# Altium footprint library PcbLibForHigh_Voltage_Sensor.PcbLib: 50 footprints (part 4 of 4)
Each footprint in its own frame and in the unit in brackets; x right, y up, seen from the top. Pads: shape width x height; smd on the part's side, far side on the other; paste and mask are expansions set on the pad; w line width, h text height; cw(c..) or ccw(c..) is an arc to the next point about the centre after c.
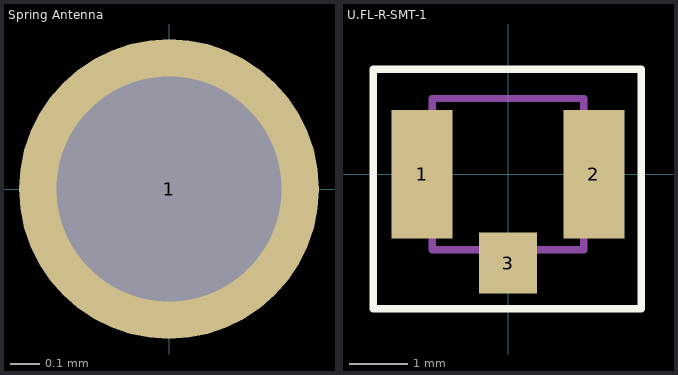
[diagram p3: the footprints below, top view; thin cyan lines are the x and y axes]

## Spring Antenna [mil] "Spring Antenna"
height 216.54
pads (1):
  round 40 hole 30: 1(0,0)
3D body: height 240.16, standoff -122.05, extent -181.61,273.25 180.59,304.75
3D body: height 240.16, standoff -122.05, extent -180.97,399.17 181.23,430.67
3D body: height 159.32, standoff -41.21, extent -100.39,174 100.39,205.5
3D body: height 159.32, standoff -41.21, extent -100.39,640 100.39,671.5
3D body: height 240.16, standoff -122.05, extent -181.84,589.34 180.36,620.84
3D body: height 240.16, standoff -122.05, extent -181.41,526.76 180.79,558.25
3D body: height 240.16, standoff -122.05, extent -179.9,473.51 182.3,505
3D body: height 240.16, standoff -122.05, extent -182.04,335.84 180.16,367.33
3D body: height 236.22, standoff -118.11, extent -177.23,177.16 177.09,767.71
3D body: height 240.16, standoff -122.05, extent -180.1,220 182.1,251.5
3D body: height 74.77, standoff 43.34, extent -15.75,0 15.62,177.16
3D body: height 57.05, standoff -171.37, extent -15.62,-15.71 15.75,15.72
3D body: height 74.8, standoff 43.31, extent -15.72,-15.64 15.74,15.64

## U.FL-R-SMT-1 [mm]
pads (3):
  rect 1.05x2.2 smd: 1(-1.475,0) 2(1.475,0)
  rect 1x1.05 smd: 3(0,-1.525)
Top Overlay:
  lines w0.127: -2.311,-2.311 2.286,-2.311 2.286,1.803 -2.083,1.803 -2.311,1.803 -2.311,-2.311
Mechanical 3:
  lines w0.127: -1.3,-1.3 -1.3,1.3 1.3,1.3 1.3,-1.3 -1.3,-1.3
Mechanical 7:
  lines w0.127: -1.3,-1.3 -1.3,1.3 1.3,1.3 1.3,-1.3 -1.3,-1.3
3D body "U.FL-R-SMT-01---3DModel-STEP-56544.STEP": height 1.25, standoff 0, extent -1.473,-1.549 1.527,1.551